# Altium footprint library QFN24-SPE-HMC931LP4E.PcbLib: 1 footprints
Each footprint in its own frame and in the unit in brackets; x right, y up, seen from the top. Pads: shape width x height; smd on the part's side, far side on the other; paste and mask are expansions set on the pad; w line width, h text height; cw(c..) or ccw(c..) is an arc to the next point about the centre after c.
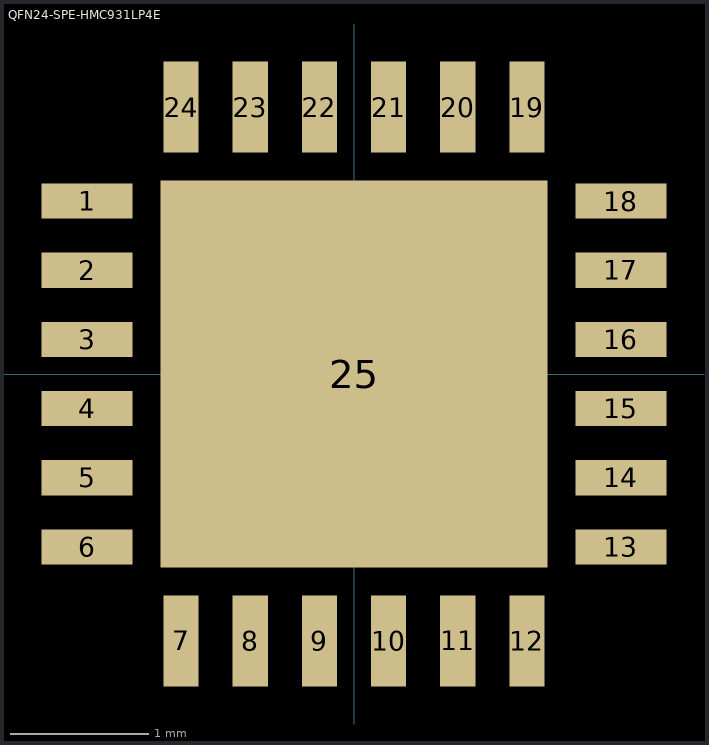
[diagram p0: the footprint, top view; thin cyan lines are the x and y axes]

## QFN24-SPE-HMC931LP4E [mil] "QFN 24P with thermal pad"
height 39.37
pads (25):
  rect 26x10 smd mask+0: 1(-75.98,49.21) 2(-75.98,29.53) 3(-75.98,9.84) 4(-75.98,-9.84) 5(-75.98,-29.53) 6(-75.98,-49.21) 13(75.98,-49.21) 14(75.98,-29.53) 15(75.98,-9.84) 16(75.98,9.84) 17(75.98,29.53) 18(75.98,49.21)
  rect 10x26 smd mask+0: 7(-49.21,-75.98) 8(-29.53,-75.98) 9(-9.84,-75.98) 10(9.84,-75.98) 11(29.53,-75.98) 12(49.21,-75.98) 19(49.21,75.98) 20(29.53,75.98) 21(9.84,75.98) 22(-9.84,75.98) 23(-29.53,75.98) 24(-49.21,75.98)
  rect 110x110 smd paste-78.74 mask+0: 25(0,0)
Top Paste:
  region: -46.21,-46.21 46.21,-46.21 46.21,46.21 -29.21,46.21 -46.21,29.21
  lines w0.39: -46.21,-46.21 46.21,-46.21 46.21,46.21 -29.21,46.21 -46.21,29.21 -46.21,-46.21
Top Solder:
  region: -49.21,-49.21 49.21,-49.21 49.21,49.21 -29.21,49.21 -49.21,29.21
  region: 58.07,62.99 55.12,60.04 -55.12,60.04 -58.07,62.99 -58.07,90.55 58.07,90.55
  region: -62.99,58.07 -60.04,55.12 -60.04,-55.12 -62.99,-58.07 -90.55,-58.07 -90.55,58.07
  region: 62.99,-58.07 60.04,-55.12 60.04,55.12 62.99,58.07 90.55,58.07 90.55,-58.07
  region: -58.07,-62.99 -55.12,-60.04 55.12,-60.04 58.07,-62.99 58.07,-90.55 -58.07,-90.55
3D body: height 35.43, standoff 0, extent -78.75,-78.7 78.89,78.94